# EAGLE library part MMC5983MA (library SparkFun-Sensors)
High Performance 3-axis Magnetic Sensor The MMC5983MA is an AEC-Q100 qualified complete 3-axis magnetic sensor with on-chip signal processing and integrated I2C/SPI bus suitable for use in automotive applications. The device can be connected directly to a microprocessor, eliminating the need for A/D converters or timing resources. It can measure magnetic fields within the full scale range of ±8 Gauss (G), with 0.25mG/0.0625mG per LSB resolution at 16bits/18bits operation mode and 0.4 mG total RMS noise level, enabling heading accuracy of ±0.5° in electronic compass applications.
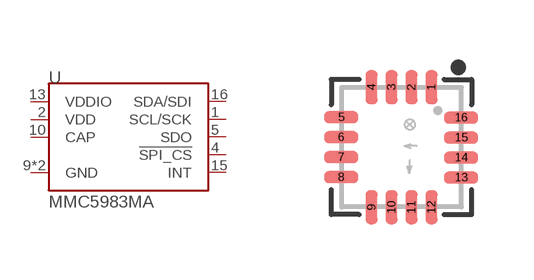
[diagram p28: symbol with the pads of LGA-16-3X3MM-4X4PINS; footprint LGA-16-3X3MM-4X4PINS]

Designator prefix U

## MMC5983MA_QFN16 (PROD_ID: IC-16314)  [LGA-16-3X3MM-4X4PINS]
1  SCL/SCK
2  VDD  pwr
4  !SPI_CS!  in
5  SDO  out
9  GND  pwr
10  CAP  pas
11  GND  pwr
13  VDDIO  pwr
15  INT  out
16  SDA/SDI

## Footprint LGA-16-3X3MM-4X4PINS (pad centres in mm)
3 x 3 mm 16 pin LGA package, pitch 0.5 mm.
smd 0.3 x 0.85: 1 0.754,1.498; 2 0.254,1.498; 3 -0.246,1.498; 4 -0.746,1.498; 9 -0.746,-1.506; 10 -0.246,-1.506; 11 0.254,-1.506; 12 0.754,-1.506
smd 0.85 x 0.3: 5 -1.508,0.746; 6 -1.508,0.246; 7 -1.508,-0.254; 8 -1.508,-0.754; 13 1.496,-0.764; 14 1.496,-0.264; 15 1.496,0.236; 16 1.496,0.736